# EAGLE library part SENSOR-BMP085 (library Discrete)
Digital pressure sensor http://www.bosch-sensortec.com/content/language4/downloads/BST-BMP085-DS000-06.pdf
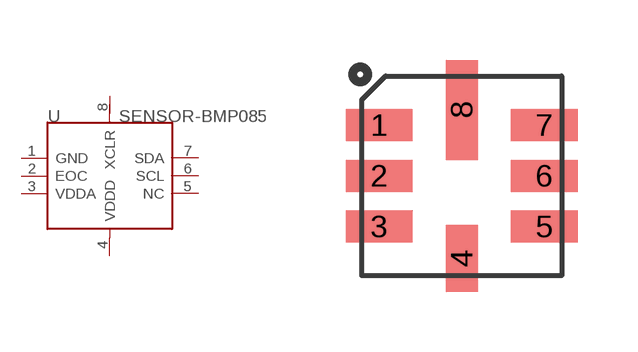
[diagram p10: symbol with the pads of LCC8; footprint LCC8]

Designator prefix U

## SENSOR-BMP085-LCC8  [LCC8]
1  GND  sup
2  EOC  out
3  VDDA  sup
4  VDDD  sup
5  NC  nc
6  SCL  in
7  SDA
8  XCLR  in

## Footprint LCC8 (pad centres in mm)
smd 1.67 x 0.8: 1 -2.065,1.27; 2 -2.065,0; 3 -2.065,-1.27; 5 2.065,-1.27; 6 2.065,0; 7 2.065,1.27
smd 0.8 x 1.67: 4 0,-2.065
smd 0.8 x 2.5: 8 0,1.65